# Altium footprint library 20-SSOP.PcbLib: 1 footprints
Each footprint in its own frame and in the unit in brackets; x right, y up, seen from the top. Pads: shape width x height; smd on the part's side, far side on the other; paste and mask are expansions set on the pad; w line width, h text height; cw(c..) or ccw(c..) is an arc to the next point about the centre after c.
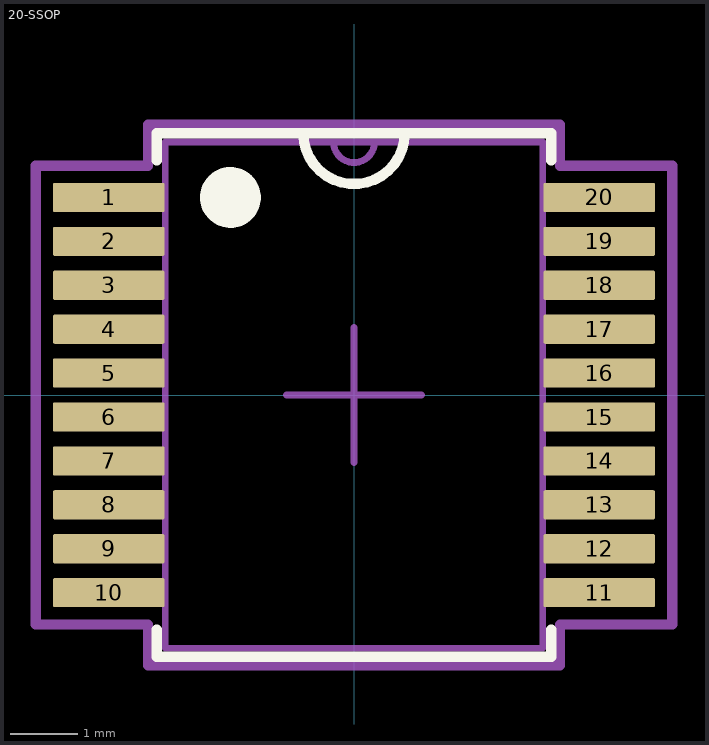
[diagram p0: the footprint, top view; thin cyan lines are the x and y axes]

## 20-SSOP [mil]
pads (20):
  rrect10% 65x17 smd paste+0: 1(-142.92,115.16) 2(-142.92,89.57) 3(-142.92,63.98) 4(-142.92,38.39) 5(-142.92,12.8) 6(-142.92,-12.8) 7(-142.92,-38.39) 8(-142.92,-63.98) 9(-142.92,-89.57) 10(-142.92,-115.16) 11(142.92,-115.16) 12(142.92,-89.57) 13(142.92,-63.98) 14(142.92,-38.39) 15(142.92,-12.8) 16(142.92,12.8) 17(142.92,38.39) 18(142.92,63.98) 19(142.92,89.57) 20(142.92,115.16)
Top Overlay:
  circle w19.68: c-72,115.16 r7.87
  lines w5.98: -29.53,152.5 ccw(c0,152.5) 29.53,152.5
  lines w6: -115,-136.76 -115,-152.5 115,-152.5 115,-136.76 ; -115,136.76 -115,152.5 115,152.5 115,136.76
Mechanical 13:
  lines w1: -161.42,-122.66 -110,-122.66 -110,-107.66 -161.42,-107.66 -161.42,-122.66 ; -161.42,-97.07 -110,-97.07 -110,-82.07 -161.42,-82.07 -161.42,-97.07 ; -161.42,-71.48 -110,-71.48 -110,-56.48 -161.42,-56.48 -161.42,-71.48 ; -161.42,-45.89 -110,-45.89 -110,-30.89 -161.42,-30.89 -161.42,-45.89 ; -161.42,-20.3 -110,-20.3 -110,-5.3 -161.42,-5.3 -161.42,-20.3 ; -161.42,5.3 -110,5.3 -110,20.3 -161.42,20.3 -161.42,5.3 ; -161.42,30.89 -110,30.89 -110,45.89 -161.42,45.89 -161.42,30.89 ; -161.42,56.48 -110,56.48 -110,71.48 -161.42,71.48 -161.42,56.48 ; -161.42,82.07 -110,82.07 -110,97.07 -161.42,97.07 -161.42,82.07 ; -161.42,107.66 -110,107.66 -110,122.66 -161.42,122.66 -161.42,107.66 ; 110,-122.66 161.42,-122.66 161.42,-107.66 110,-107.66 110,-122.66 ; 110,-97.07 161.42,-97.07 161.42,-82.07 110,-82.07 110,-97.07 ; 110,-71.48 161.42,-71.48 161.42,-56.48 110,-56.48 110,-71.48 ; 110,-45.89 161.42,-45.89 161.42,-30.89 110,-30.89 110,-45.89 ; 110,-20.3 161.42,-20.3 161.42,-5.3 110,-5.3 110,-20.3 ; 110,5.3 161.42,5.3 161.42,20.3 110,20.3 110,5.3 ; 110,30.89 161.42,30.89 161.42,45.89 110,45.89 110,30.89 ; 110,56.48 161.42,56.48 161.42,71.48 110,71.48 110,56.48 ; 110,82.07 161.42,82.07 161.42,97.07 110,97.07 110,82.07 ; 110,107.66 161.42,107.66 161.42,122.66 110,122.66 110,107.66
  lines w3.94: -12,147.5 ccw(c0,147.5) 12,147.5 ; -110,-147.5 -110,147.5 110,147.5 110,-147.5 -110,-147.5
Mechanical 15:
  lines w3.94: -39.37,0 0,0 ; 0,-39.37 0,0 ; 0,39.37 0,0 ; 39.37,0 0,0
  lines w6: -185.42,-133.66 -120,-133.66 -120,-157.5 120,-157.5 120,-133.66 185.42,-133.66 185.42,133.66 120,133.66 120,157.5 -120,157.5 -120,133.66 -185.42,133.66 -185.42,-133.66
3D body: height 10, standoff 0, extent 0,0 10,10